# Altium footprint library SMB Diode.PcbLib: 1 footprints
Each footprint in its own frame and in the unit in brackets; x right, y up, seen from the top. Pads: shape width x height; smd on the part's side, far side on the other; paste and mask are expansions set on the pad; w line width, h text height; cw(c..) or ccw(c..) is an arc to the next point about the centre after c.
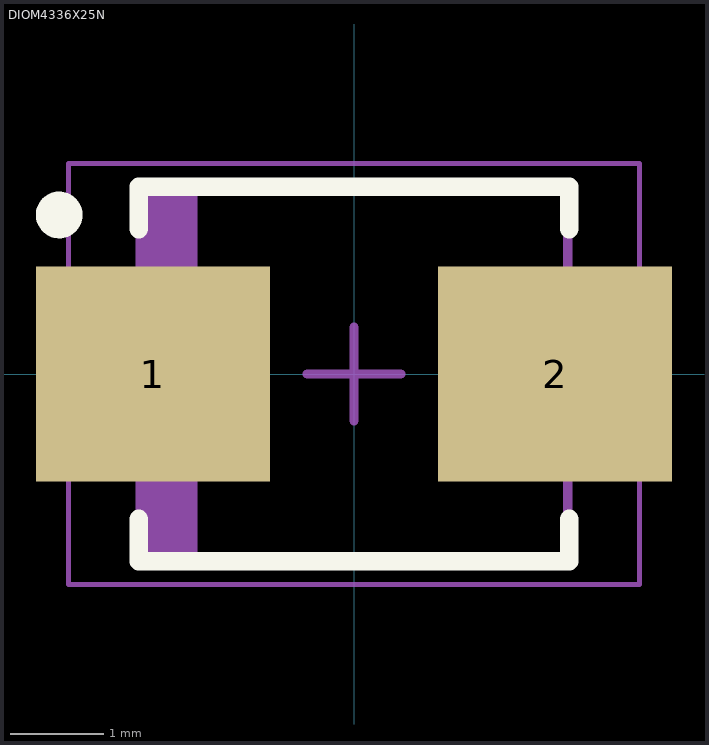
[diagram p0: the footprint, top view; thin cyan lines are the x and y axes]

## DIOM4336X25N [mm] "Molded Diode, 2-Leads, Body 4.31x3.62mm, IPC Medium Density"
height 2.5
pads (2):
  rect 2.5x2.3 smd: 1(-2.15,0) 2(2.15,0)
Top Overlay:
  circle w0.25: c-3.15,1.7 r0.125
  lines w0.2: -2.3,-1.55 -2.3,-2 2.3,-2 2.3,-1.55 ; -2.3,1.55 -2.3,2 2.3,2 2.3,1.55
Mechanical 13:
  rectangle: -2.285,-1.97 -1.67,1.97
  lines w0.1: -2.285,-1.97 2.285,-1.97 2.285,1.97 -2.285,1.97 -2.285,-1.97
Mechanical 15:
  lines w0.05: -3.05,-2.25 3.05,-2.25 3.05,2.25 -3.05,2.25 -3.05,-2.25
  lines w0.1: -0.5,0 0.5,0 ; 0,-0.5 0,0.5
3D body "DIOM4336X25N.step": height 2.5, standoff 0, extent -2.505,-1.97 2.505,1.97